# EAGLE library part ANT-XXX-SP (library linx)
ANT-315-SP Source: http://www.antennafactor.com/documents/ANT-315-SP_Data_Sheet.pdf
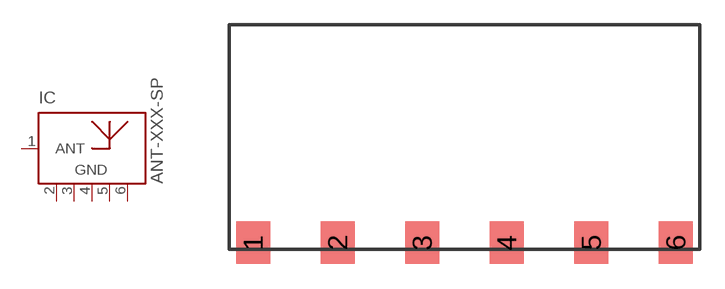
[diagram p2: symbol with the pads of ANT-XXX-SP; footprint ANT-XXX-SP]

Designator prefix IC

## ANT-XXX-SP  [ANT-XXX-SP]
1  ANT  pas
2  GND  pas
3  GND  pas
4  GND  pas
5  GND  pas
6  GND  pas

## Footprint ANT-XXX-SP (pad centres in mm)
ANT-xxx-SP Source: All Packages.pdf
smd 2.032 x 2.54: 1 -12.7,0; 2 -7.62,0; 3 -2.54,0; 4 2.54,0; 5 7.62,0; 6 12.7,0